# EAGLE library part TC58CVG2S0HRAIJ (library MITCH Shield)
KIOXIA 4Gb 3.3V Serial Interface NAND Storage Chip https://www.mouser.com/ProductDetail/Kioxia-America/TC58CVG2S0HRAIJ/?qs=%2Fha2pyFadugZc7%252BD9PrBDvjJY1X%2FOab4zY0dVt2Ql9dEVkAi3P74yw%3D%3D
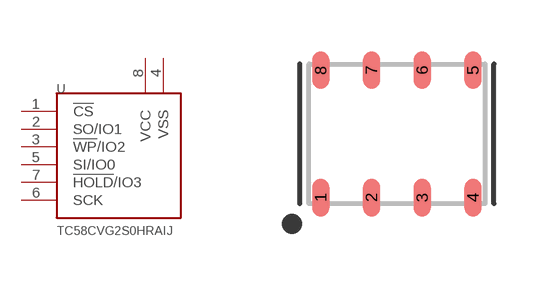
[diagram p2: symbol with the pads of SON127P340X430X80-8N; footprint SON127P340X430X80-8N]

Designator prefix -

## TC58CVG2S0HRAIJ  [SON127P340X430X80-8N]
1  !CS!
2  SO/IO1
3  !WP!/IO2
4  VSS
5  SI/IO0
6  SCK
7  !HOLD!/IO3
8  VCC

## Footprint SON127P340X430X80-8N (pad centres in mm)
8-SON (DFN), 1.27 mm pitch, 4.30 X 3.40 X 0.80 mm body 8-pin SON (DFN) package with 1.27 mm pitch with body size 4.30 X 3.40 X 0.80 mm
smd 0.42 x 0.938: 1 -1.905,-1.596; 2 -0.635,-1.596; 3 0.635,-1.596; 4 1.905,-1.596; 5 1.905,1.596; 6 0.635,1.596; 7 -0.635,1.596; 8 -1.905,1.596